# Altium footprint library Connectors.PcbLib: 37 footprints (part 2 of 3)
Each footprint in its own frame and in the unit in brackets; x right, y up, seen from the top. Pads: shape width x height; smd on the part's side, far side on the other; paste and mask are expansions set on the pad; w line width, h text height; cw(c..) or ccw(c..) is an arc to the next point about the centre after c.
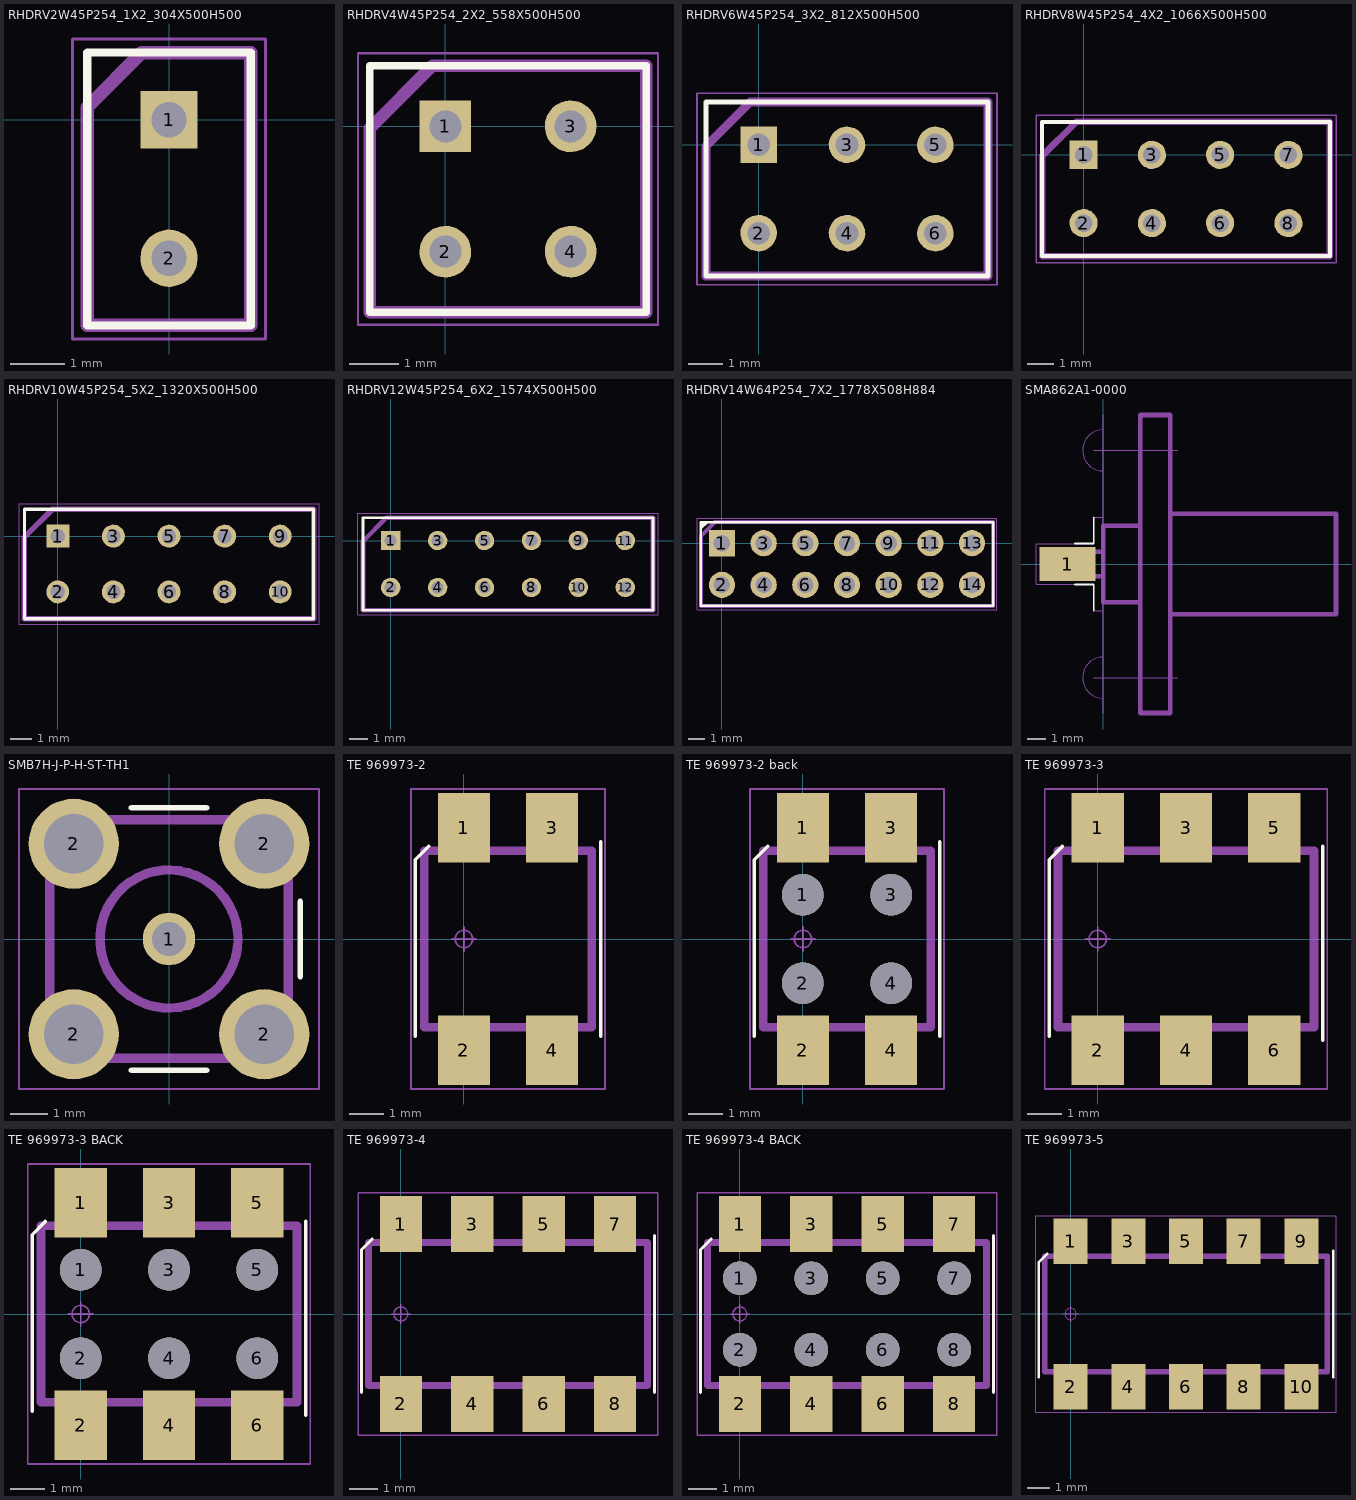
[diagram p1: the footprints below, top view; thin cyan lines are the x and y axes]

## RHDRV2W45P254_1X2_304X500H500 [mm] "Header, Vertical Receptacle, 2.54 mm pitch; 0.45 mm lead width, 2 pins, 2 rows, 1 pin per row, 3.04 mm L X 5.00 mm W X 5.00 mm H body"
height 5
pads (2):
  rect 1.05x1.05 / inner round 1.05 / far side rect 1.05x1.05 hole 0.65 paste-1.05: 1(0,0)
  round 1.05 hole 0.65 paste-1.05: 2(0,-2.54)
Top Overlay:
  lines w0.15: -1.5,-3.77 -1.5,1.23 1.5,1.23 1.5,-3.77 -1.5,-3.77
Top Assembly:
  lines w0.25: -1.5,-3.77 -1.5,0.23 -0.5,1.23 1.5,1.23 1.5,-3.77 -1.5,-3.77
  text ".Designator" at -1.3,-1.6 h1.5
Top Courtyard:
  circle w0.05: c0,0 r0.25
  lines w0.05: -0.35,0 0.35,0 ; 0,-0.35 0,0.35 ; -1.77,-4.02 -1.77,1.48 1.77,1.48 1.77,-4.02 -1.77,-4.02
3D body "RHDRV2W45P254_1X2_304X500H500.STEP": height 5, standoff -2, extent -1.52,-3.77 1.52,1.23

## RHDRV4W45P254_2X2_558X500H500 [mm] "Header, Vertical Receptacle, 2.54 mm pitch; 0.45 mm lead width, 4 pins, 2 rows, 2 pins per row, 5.58 mm L X 5.00 mm W X 5.00 mm H body"
height 5
pads (4):
  rect 1.05x1.05 / inner round 1.05 / far side rect 1.05x1.05 hole 0.65 paste-1.05: 1(0,0)
  round 1.05 hole 0.65 paste-1.05: 2(0,-2.54) 3(2.54,0) 4(2.54,-2.54)
Top Overlay:
  lines w0.15: -1.53,-3.77 -1.53,1.23 4.07,1.23 4.07,-3.77 -1.53,-3.77
Top Assembly:
  lines w0.25: -1.53,-3.77 -1.53,-0.04 -0.26,1.23 4.07,1.23 4.07,-3.77 -1.53,-3.77
  text ".Designator" at -1.2,-1.7 h1.5
Top Courtyard:
  circle w0.05: c0,0 r0.25
  lines w0.05: -0.35,0 0.35,0 ; 0,-0.35 0,0.35 ; -1.77,-4.02 -1.77,1.48 4.31,1.48 4.31,-4.02 -1.77,-4.02
3D body "RHDRV4W45P254_2X2_558X500H500.STEP": height 5, standoff -2, extent -1.52,-3.77 4.06,1.23

## RHDRV6W45P254_3X2_812X500H500 [mm] "Header, Vertical Receptacle, 2.54 mm pitch; 0.45 mm lead width, 6 pins, 2 rows, 3 pins per row, 8.12 mm L X 5.00 mm W X 5.00 mm H body"
height 5
pads (6):
  rect 1.05x1.05 / inner round 1.05 / far side rect 1.05x1.05 hole 0.65 paste-1.05: 1(0,0)
  round 1.05 hole 0.65 paste-1.05: 2(0,-2.54) 3(2.54,0) 4(2.54,-2.54) 5(5.08,0) 6(5.08,-2.54)
Top Overlay:
  lines w0.15: -1.51,-3.77 6.59,-3.77 6.59,1.23 -1.51,1.23 -1.51,-3.77
Top Assembly:
  lines w0.25: -1.51,-3.77 6.59,-3.77 6.59,1.23 -0.24,1.23 -1.51,-0.04 -1.51,-3.77
  text ".Designator" at -0.1,-1.7 h1.5
Top Courtyard:
  circle w0.05: c0,0 r0.25
  lines w0.05: -0.35,0 0.35,0 ; 0,-0.35 0,0.35 ; -1.77,-4.02 6.85,-4.02 6.85,1.48 -1.77,1.48 -1.77,-4.02
3D body "RHDRV6W45P254_3X2_812X500H500.STEP": height 5, standoff -2, extent -1.52,-3.77 6.6,1.23

## RHDRV8W45P254_4X2_1066X500H500 [mm] "Header, Vertical Receptacle, 2.54 mm pitch; 0.45 mm lead width, 8 pins, 2 rows, 4 pins per row, 10.66 mm L X 5.00 mm W X 5.00 mm H body"
height 5
pads (8):
  rect 1.05x1.05 / inner round 1.05 / far side rect 1.05x1.05 hole 0.65 paste-1.05: 1(0,0)
  round 1.05 hole 0.65 paste-1.05: 2(0,-2.54) 3(2.54,0) 4(2.54,-2.54) 5(5.08,0) 6(5.08,-2.54) 7(7.62,0) 8(7.62,-2.54)
Top Overlay:
  lines w0.15: -1.54,-3.77 9.16,-3.77 9.16,1.23 -1.54,1.23 -1.54,-3.77
Top Assembly:
  lines w0.25: -1.54,-3.77 9.16,-3.77 9.16,1.23 -0.27,1.23 -1.54,-0.04 -1.54,-3.77
  text ".Designator" at 0.4,-1.7 h1.5
Top Courtyard:
  circle w0.05: c0,0 r0.25
  lines w0.05: -0.35,0 0.35,0 ; 0,-0.35 0,0.35 ; -1.77,-4.02 9.39,-4.02 9.39,1.48 -1.77,1.48 -1.77,-4.02
3D body "RHDRV8W45P254_4X2_1066X500H500.STEP": height 5, standoff -2, extent -1.52,-3.77 9.14,1.23

## RHDRV10W45P254_5X2_1320X500H500 [mm] "Header, Vertical Receptacle, 2.54 mm pitch; 0.45 mm lead width, 10 pins, 2 rows, 5 pins per row, 13.20 mm L X 5.00 mm W X 5.00 mm H body"
height 5
pads (10):
  rect 1.05x1.05 / inner round 1.05 / far side rect 1.05x1.05 hole 0.65 paste-1.05: 1(0,0)
  round 1.05 hole 0.65 paste-1.05: 2(0,-2.54) 3(2.54,0) 4(2.54,-2.54) 5(5.08,0) 6(5.08,-2.54) 7(7.62,0) 8(7.62,-2.54) 9(10.16,0) 10(10.16,-2.54)
Top Overlay:
  lines w0.15: -1.52,-3.77 -1.52,1.23 11.68,1.23 11.68,-3.77 -1.52,-3.77
Top Assembly:
  lines w0.25: -1.52,-3.77 -1.52,-0.04 -0.25,1.23 11.68,1.23 11.68,-3.77 -1.52,-3.77
  text ".Designator" at 2.1,-1.7 h1.5
Top Courtyard:
  circle w0.05: c0,0 r0.25
  lines w0.05: -0.35,0 0.35,0 ; 0,-0.35 0,0.35 ; -1.77,-4.02 -1.77,1.48 11.93,1.48 11.93,-4.02 -1.77,-4.02
3D body "RHDRV10W45P254_5X2_1320X500H500.STEP": height 5, standoff -2, extent -1.52,-3.77 11.68,1.23

## RHDRV12W45P254_6X2_1574X500H500 [mm] "Header, Vertical Receptacle, 2.54 mm pitch; 0.45 mm lead width, 12 pins, 2 rows, 6 pins per row, 15.74 mm L X 5.00 mm W X 5.00 mm H body"
height 5
pads (12):
  rect 1.05x1.05 / inner round 1.05 / far side rect 1.05x1.05 hole 0.65 paste-1.05: 1(0,0)
  round 1.05 hole 0.65 paste-1.05: 2(0,-2.54) 3(2.54,0) 4(2.54,-2.54) 5(5.08,0) 6(5.08,-2.54) 7(7.62,0) 8(7.62,-2.54) 9(10.16,0) 10(10.16,-2.54) 11(12.7,0) 12(12.7,-2.54)
Top Overlay:
  lines w0.15: -1.5,-3.77 -1.5,1.23 14.2,1.23 14.2,-3.77 -1.5,-3.77
Top Assembly:
  lines w0.25: -1.5,-3.77 -1.5,-0.04 -0.23,1.23 14.2,1.23 14.2,-3.77 -1.5,-3.77
  text ".Designator" at 2.9,-1.7 h1.5
Top Courtyard:
  circle w0.05: c0,0 r0.25
  lines w0.05: -0.35,0 0.35,0 ; 0,-0.35 0,0.35 ; -1.77,-4.02 -1.77,1.48 14.47,1.48 14.47,-4.02 -1.77,-4.02
3D body "RHDRV12W45P254_6X2_1574X500H500.STEP": height 5, standoff -2, extent -1.52,-3.77 14.22,1.23

## RHDRV14W64P254_7X2_1778X508H884 [mm] "Header, Vertical Receptacle, 2.54 mm pitch; 0.64 mm lead width, 14 pins, 2 rows, 7 pins per row, 17.78 mm L X 5.08 mm W X 8.84 mm H body"
height 8.84
pads (14):
  rect 1.6x1.6 hole 1 paste-1.6: 1(0,0)
  round 1.6 hole 1 paste-1.6: 2(0,-2.54) 3(2.54,0) 4(2.54,-2.54) 5(5.08,0) 6(5.08,-2.54) 7(7.62,0) 8(7.62,-2.54) 9(10.16,0) 10(10.16,-2.54) 11(12.7,0) 12(12.7,-2.54) 13(15.24,0) 14(15.24,-2.54)
Top Overlay:
  region: -0.811,1.282 -1.278,0.815 -1.28,1.28
  lines w0.15: -1.28,-3.82 16.52,-3.82 16.52,1.28 -1.28,1.28 -1.28,-3.82
Top Assembly:
  lines w0.25: -1.28,-3.82 16.52,-3.82 16.52,1.28 -0.433,1.28 -1.28,0.433 -1.28,-3.82
  text ".Designator" at 0,0 h1.5
Top Courtyard:
  circle w0.05: c0,0 r0.25
  lines w0.05: -0.35,0 0.35,0 ; 0,-0.35 0,0.35 ; -1.52,-4.06 16.76,-4.06 16.76,1.52 -1.52,1.52 -1.52,-4.06
3D body "RHDRV14W64P254_7X2_1778X508H884.STEP": height 8.84, standoff -2, extent -1.27,-3.81 16.51,1.27

## SMA862A1-0000 [mm] "SMA Jack For Panel Receptacle 50Ohm 2 Holes"
height 1.27
pads (1):
  rect 3x1.8 smd paste-0.1 mask-0.1: 1(-1.9,0)
Top Overlay:
  lines w0.1: -1.5,-1.1 -0.5,-1.1 -0.5,-2.5 ; -1.5,1.1 -0.5,1.1 -0.5,2.5
Top Assembly:
  lines w0.25: 0,-0.65 -3,-0.65 -3,0.65 0,0.65 ; 2,-2.05 0,-2.05 0,2.05 2,2.05 ; 3.6,-2.7 12.5,-2.7 12.5,2.7 3.6,2.7 ; 2,-8 3.6,-8 3.6,8 2,8 2,-8
  text ".Designator" at 4.1,-0.4 h1.5
Bottom Assembly:
  lines w0.25: 2,-2.05 0,-2.05 0,2.05 2,2.05 ; 3.6,-2.7 12.5,-2.7 12.5,2.7 3.6,2.7 ; 2,-8 2,8 3.6,8 3.6,-8 2,-8
Top Courtyard:
  lines w0.05: -0.5,-6.1 4,-6.1 ; -0.5,6.1 4,6.1 ; 0,-8 0,8 ; 0,-7.2 cw(c0,-6.1) 0,-5 ; 0,-2.5 -0.5,-2.5 -0.5,-1.1 -3.6,-1.1 -3.6,1.1 -0.5,1.1 -0.5,2.5 0,2.5 ; 0,5 cw(c0,6.1) 0,7.2
Bottom Courtyard:
  lines w0.05: -0.5,-6.1 4,-6.1 ; -0.5,6.1 4,6.1 ; 0,-8 0,8 ; 0,-7.2 cw(c0,-6.1) 0,-5 ; 0,-2.5 -0.5,-2.5 -0.5,-1.1 -3.6,-1.1 -3.6,1.1 -0.5,1.1 -0.5,2.5 0,2.5 ; 0,5 cw(c0,6.1) 0,7.2
3D body "SMA862A1-0000.STEP": height 3.81, standoff -2.54, extent -3,-8 12.5,8

## SMB7H-J-P-H-ST-TH1 [mm] "Samtec 75? True 75™ SMB Jack, Through-hole"
height 6.35
pads (5):
  round 1.4 hole 0.9: 1(0,0)
  round 2.4 hole 1.6: 2(-2.54,-2.54) 2(-2.54,2.54) 2(2.54,-2.54) 2(2.54,2.54)
Top Overlay:
  lines w0.15: -1,-3.5 1,-3.5 ; -1,3.5 1,3.5 ; 3.5,-1 3.5,1
Top Assembly:
  circle w0.25: c0,0 r1.84
  lines w0.25: -3.175,-3.175 -3.175,3.175 3.175,3.175 3.175,-3.175 -3.175,-3.175
  text ".Designator" at -2.8,-2.8 h1.5
Top Courtyard:
  circle w0.05: c0,0 r0.25
  lines w0.05: -0.35,0 0.35,0 ; 0,-0.35 0,0.35 ; -4,-4 -4,4 4,4 4,-4 -4,-4
3D body "SMB7H_J_P_H_ST_TH1.STEP": height 7.99, standoff -3.44, extent -3.175,-3.175 3.175,3.175

## TE 969973-2 [mm] "2x2P HV100 REC DOUBLE ROW"
height 6.2
pads (4):
  rect 1.5x2 smd: 1(0,3.2) 2(0,-3.2) 3(2.54,3.2) 4(2.54,-3.2)
Top Overlay:
  lines w0.1: -1.397,-2.794 -1.397,2.286 -1.016,2.667 ; 3.937,-2.794 3.937,2.794
Top Assembly:
  lines w0.25: -1.143,-2.54 3.683,-2.54 3.683,2.54 -1.143,2.54 -1.143,-2.54
  text ".Designator" at -0.8,-0.4 h1.5
Top Courtyard:
  circle w0.05: c0,0 r0.25
  lines w0.05: -0.35,0 0.35,0 ; 0,-0.35 0,0.35 ; -1.524,-4.318 -1.524,4.318 4.064,4.318 4.064,-4.318 -1.524,-4.318
3D body "969973-2 series.STEP": height 6.2, standoff 0, extent -1.17,-3.825 3.71,3.825

## TE 969973-2 back [mm] "2x2P HV100 REC DOUBLE ROW WITH HOLES"
height 6.2
pads (8):
  round 1.2 hole 1.2 unplated paste-0.1 mask-0.1: 1(0,1.27) 2(0,-1.27) 3(2.54,1.27) 4(2.54,-1.27)
  rect 1.5x2 smd: 1(0,3.2) 2(0,-3.2) 3(2.54,3.2) 4(2.54,-3.2)
Top Overlay:
  lines w0.1: -1.397,-2.794 -1.397,2.286 -1.016,2.667 ; 3.937,-2.794 3.937,2.794
Top Assembly:
  lines w0.25: -1.143,-2.54 -1.143,2.54 3.683,2.54 3.683,-2.54 -1.143,-2.54
  text ".Designator" at -0.7,-0.4 h1.5
Top Courtyard:
  circle w0.05: c0,0 r0.25
  lines w0.05: -0.35,0 0.35,0 ; 0,-0.35 0,0.35 ; -1.524,-4.318 4.064,-4.318 4.064,4.318 -1.524,4.318 -1.524,-4.318
3D body "969973-2 series.STEP": height 6.2, standoff 0, extent -1.17,-3.825 3.71,3.825

## TE 969973-3 [mm] "2x3P HV100 REC DOUBLE ROW"
height 6.2
pads (6):
  rect 1.5x2 smd: 1(0,3.2) 2(0,-3.2) 3(2.54,3.2) 4(2.54,-3.2) 5(5.08,3.2) 6(5.08,-3.2)
Top Overlay:
  lines w0.1: -1.397,-2.794 -1.397,2.286 -1.016,2.667 ; 6.477,-2.921 6.477,2.667
Top Assembly:
  lines w0.25: -1.143,-2.54 -1.143,2.54 6.223,2.54 6.223,-2.54 -1.143,-2.54
  text ".Designator" at -0.8,-0.5 h1.5
Top Courtyard:
  circle w0.05: c0,0 r0.25
  lines w0.05: -0.35,0 0.35,0 ; 0,-0.35 0,0.35 ; -1.524,-4.318 6.604,-4.318 6.604,4.318 -1.524,4.318 -1.524,-4.318
3D body "969973-3 series.STEP": height 6.2, standoff 0, extent -1.17,-3.825 6.25,3.825

## TE 969973-3 BACK [mm] "2x3P HV100 REC DOUBLE ROW WITH HOLES"
height 6.2
pads (12):
  round 1.2 hole 1.2 unplated paste-0.1 mask-0.1: 1(0,1.27) 2(0,-1.27) 3(2.54,1.27) 4(2.54,-1.27) 5(5.08,1.27) 6(5.08,-1.27)
  rect 1.5x2 smd: 1(0,3.2) 2(0,-3.2) 3(2.54,3.2) 4(2.54,-3.2) 5(5.08,3.2) 6(5.08,-3.2)
Top Overlay:
  lines w0.1: -1.397,-2.794 -1.397,2.286 -1.016,2.667 ; 6.477,-2.921 6.477,2.667
Top Assembly:
  lines w0.25: -1.143,-2.54 -1.143,2.54 6.223,2.54 6.223,-2.54 -1.143,-2.54
  text ".Designator" at -0.8,-0.5 h1.5
Top Courtyard:
  circle w0.05: c0,0 r0.25
  lines w0.05: -0.35,0 0.35,0 ; 0,-0.35 0,0.35 ; -1.524,-4.318 6.604,-4.318 6.604,4.318 -1.524,4.318 -1.524,-4.318
3D body "969973-3 series.STEP": height 6.2, standoff 0, extent -1.17,-3.825 6.25,3.825

## TE 969973-4 [mm] "2x4P HV100 REC DOUBLE ROW"
height 6.2
pads (8):
  rect 1.5x2 smd: 1(0,3.2) 2(0,-3.2) 3(2.54,3.2) 4(2.54,-3.2) 5(5.08,3.2) 6(5.08,-3.2) 7(7.62,3.2) 8(7.62,-3.2)
Top Overlay:
  lines w0.1: -1.397,-2.794 -1.397,2.286 -1.016,2.667 ; 9.017,-2.794 9.017,2.794
Top Assembly:
  lines w0.25: -1.143,-2.54 8.763,-2.54 8.763,2.54 -1.143,2.54 -1.143,-2.54
  text ".Designator" at -0.3,-0.5 h1.5
Top Courtyard:
  circle w0.05: c0,0 r0.25
  lines w0.05: -0.35,0 0.35,0 ; 0,-0.35 0,0.35 ; -1.524,-4.318 -1.524,4.318 9.144,4.318 9.144,-4.318 -1.524,-4.318
3D body "969973-4 series.STEP": height 6.2, standoff 0, extent -1.17,-3.825 8.79,3.825

## TE 969973-4 BACK [mm] "2x4P HV100 REC DOUBLE ROW WITH HOLES"
height 6.2
pads (16):
  round 1.2 hole 1.2 unplated paste-0.1 mask-0.1: 1(0,1.27) 2(0,-1.27) 3(2.54,1.27) 4(2.54,-1.27) 5(5.08,1.27) 6(5.08,-1.27) 7(7.62,1.27) 8(7.62,-1.27)
  rect 1.5x2 smd: 1(0,3.2) 2(0,-3.2) 3(2.54,3.2) 4(2.54,-3.2) 5(5.08,3.2) 6(5.08,-3.2) 7(7.62,3.2) 8(7.62,-3.2)
Top Overlay:
  lines w0.1: -1.397,-2.794 -1.397,2.286 -1.016,2.667 ; 9.017,-2.794 9.017,2.794
Top Assembly:
  lines w0.25: -1.143,-2.54 -1.143,2.54 8.763,2.54 8.763,-2.54 -1.143,-2.54
  text ".Designator" at -0.4,-0.5 h1.5
Top Courtyard:
  circle w0.05: c0,0 r0.25
  lines w0.05: -0.35,0 0.35,0 ; 0,-0.35 0,0.35 ; -1.524,-4.318 9.144,-4.318 9.144,4.318 -1.524,4.318 -1.524,-4.318
3D body "969973-4 series.STEP": height 6.2, standoff 0, extent -1.17,-3.825 8.79,3.825

## TE 969973-5 [mm] "2x5P HV100 REC DOUBLE ROW"
height 6.2
pads (10):
  rect 1.5x2 smd: 1(0,3.2) 2(0,-3.2) 3(2.54,3.2) 4(2.54,-3.2) 5(5.08,3.2) 6(5.08,-3.2) 7(7.62,3.2) 8(7.62,-3.2) 9(10.16,3.2) 10(10.16,-3.2)
Top Overlay:
  lines w0.1: -1.397,-2.794 -1.397,2.286 -1.016,2.667 ; 11.557,-2.794 11.557,2.794
Top Assembly:
  lines w0.25: -1.143,-2.54 -1.143,2.54 11.303,2.54 11.303,-2.54 -1.143,-2.54
  text ".Designator" at 0,-0.5 h1.5
Top Courtyard:
  circle w0.05: c0,0 r0.25
  lines w0.05: -0.35,0 0.35,0 ; 0,-0.35 0,0.35 ; -1.524,-4.318 11.684,-4.318 11.684,4.318 -1.524,4.318 -1.524,-4.318
3D body "969973-5 series.STEP": height 6.2, standoff 0, extent -1.17,-3.825 11.33,3.825